# EAGLE library part AD5941BCPZ (library AD5941BCPZ)
High Precision, Impedance & Electrochemical Front End Source: Datasheet <https://www.analog.com/media/en/technical-documentation/data-sheets/AD5940-5941.pdf>
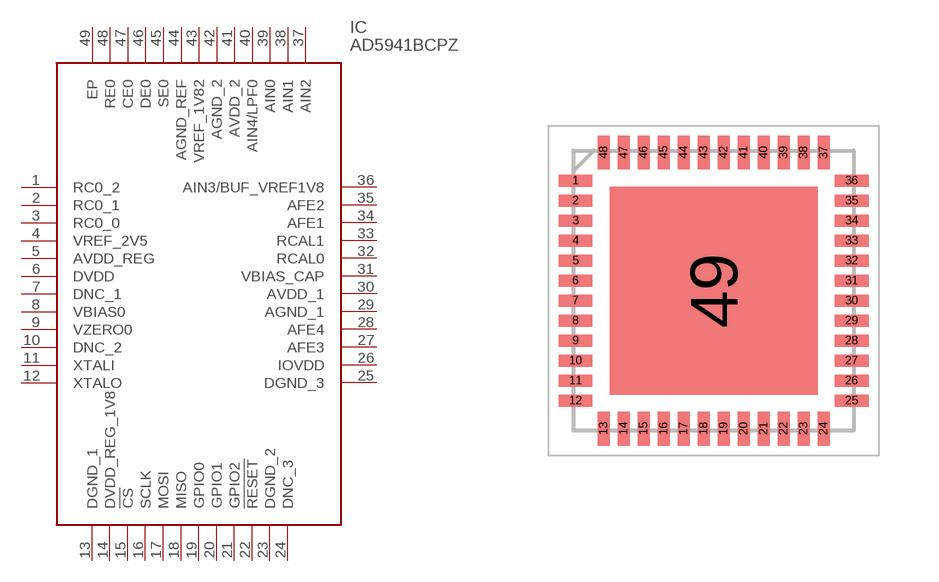
[diagram p0: symbol with the pads of QFN50P700X700X80-49N; footprint QFN50P700X700X80-49N]

Designator prefix IC

## AD5941BCPZ (Description: High Precision, Impedance & Electrochemical Front End; Height: 0.8mm; Manufacturer_Name: Analog Devices; Manufacturer_Part_Number: AD5941BCPZ; Mouser_Part_Number: 584-AD5941BCPZ; Mouser_Price-Stock: https://www.mouser.co.uk/ProductDetail/Analog-Devices/AD5941BCPZ?qs=B6kkDfuK7%2FDIxZEWBBp0eA%3D%3D)  [QFN50P700X700X80-49N]
1  RC0_2
2  RC0_1
3  RC0_0
4  VREF_2V5
5  AVDD_REG
6  DVDD
7  DNC_1
8  VBIAS0
9  VZERO0
10  DNC_2
11  XTALI
12  XTALO
13  DGND_1
14  DVDD_REG_1V8
15  !CS
16  SCLK
17  MOSI
18  MISO
19  GPIO0
20  GPIO1
21  GPIO2
22  !RESET
23  DGND_2
24  DNC_3
25  DGND_3
26  IOVDD
27  AFE3
28  AFE4
29  AGND_1
30  AVDD_1
31  VBIAS_CAP
32  RCAL0
33  RCAL1
34  AFE1
35  AFE2
36  AIN3/BUF_VREF1V8
37  AIN2
38  AIN1
39  AIN0
40  AIN4/LPF0
41  AVDD_2
42  AGND_2
43  VREF_1V82
44  AGND_REF
45  SE0
46  DE0
47  CE0
48  RE0
49  EP

## Footprint QFN50P700X700X80-49N (pad centres in mm)
LFCSP:LEADFRM CHIP SCALE_2024-1
smd 0.85 x 0.3: 1 -3.45,2.75; 2 -3.45,2.25; 3 -3.45,1.75; 4 -3.45,1.25; 5 -3.45,0.75; 6 -3.45,0.25; 7 -3.45,-0.25; 8 -3.45,-0.75; 9 -3.45,-1.25; 10 -3.45,-1.75; 11 -3.45,-2.25; 12 -3.45,-2.75; 25 3.45,-2.75; 26 3.45,-2.25; 27 3.45,-1.75; 28 3.45,-1.25; 29 3.45,-0.75; 30 3.45,-0.25; 31 3.45,0.25; 32 3.45,0.75; 33 3.45,1.25; 34 3.45,1.75; 35 3.45,2.25; 36 3.45,2.75
smd 0.3 x 0.85: 13 -2.75,-3.45; 14 -2.25,-3.45; 15 -1.75,-3.45; 16 -1.25,-3.45; 17 -0.75,-3.45; 18 -0.25,-3.45; 19 0.25,-3.45; 20 0.75,-3.45; 21 1.25,-3.45; 22 1.75,-3.45; 23 2.25,-3.45; 24 2.75,-3.45; 37 2.75,3.45; 38 2.25,3.45; 39 1.75,3.45; 40 1.25,3.45; 41 0.75,3.45; 42 0.25,3.45; 43 -0.25,3.45; 44 -0.75,3.45; 45 -1.25,3.45; 46 -1.75,3.45; 47 -2.25,3.45; 48 -2.75,3.45
smd 5.2 x 5.2: 49 0,0